# EAGLE library part SAMACSYS_PARTS_EBC18DRXH (library ネオぴゅう太_ReplaceLibParts)
CONN EDGE DUAL FMALE 36POS 0.100 Source: Datasheet <https://drawings-pdf.s3.amazonaws.com/C10881.pdf>
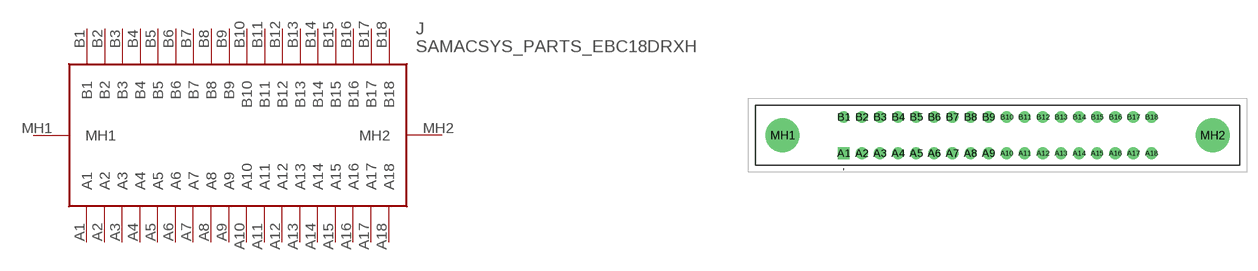
[diagram p9: symbol with the pads of SAMACSYS_PARTS_EBC18DRXH; footprint SAMACSYS_PARTS_EBC18DRXH]

Designator prefix J

## SAMACSYS_PARTS_EBC18DRXH (DESCRIPTION: CONN EDGE DUAL FMALE 36POS 0.100; HEIGHT: 11.45mm; MANUFACTURER_NAME: Sullins; MANUFACTURER_PART_NUMBER: EBC18DRXH)  [SAMACSYS_PARTS_EBC18DRXH]
A1  A1
A2  A2
A3  A3
A4  A4
A5  A5
A6  A6
A7  A7
A8  A8
A9  A9
A10  A10
A11  A11
A12  A12
A13  A13
A14  A14
A15  A15
A16  A16
A17  A17
A18  A18
B1  B1
B2  B2
B3  B3
B4  B4
B5  B5
B6  B6
B7  B7
B8  B8
B9  B9
B10  B10
B11  B11
B12  B12
B13  B13
B14  B14
B15  B15
B16  B16
B17  B17
B18  B18
MH1  MH1
MH2  MH2

## Footprint SAMACSYS_PARTS_EBC18DRXH (pad centres in mm)
EBC18DRXH-1
drill 1.09 pad 1.635 square: A1 0,0
drill 1.09 pad 1.635: A2 2.54,0; A3 5.08,0; A4 7.62,0; A5 10.16,0; A6 12.7,0; A7 15.24,0; A8 17.78,0; A9 20.32,0; A10 22.86,0; A11 25.4,0; A12 27.94,0; A13 30.48,0; A14 33.02,0; A15 35.56,0; A16 38.1,0; A17 40.64,0; A18 43.18,0; B1 0,5.08; B2 2.54,5.08; B3 5.08,5.08; B4 7.62,5.08; B5 10.16,5.08; B6 12.7,5.08; B7 15.24,5.08; B8 17.78,5.08; B9 20.32,5.08; B10 22.86,5.08; B11 25.4,5.08; B12 27.94,5.08; B13 30.48,5.08; B14 33.02,5.08; B15 35.56,5.08; B16 38.1,5.08; B17 40.64,5.08; B18 43.18,5.08
drill 3.18 pad 4.77: MH1 -8.575,2.54; MH2 51.755,2.54